# Altium footprint library CAPC0603X33N.PcbLib: 1 footprints
Each footprint in its own frame and in the unit in brackets; x right, y up, seen from the top. Pads: shape width x height; smd on the part's side, far side on the other; paste and mask are expansions set on the pad; w line width, h text height; cw(c..) or ccw(c..) is an arc to the next point about the centre after c.
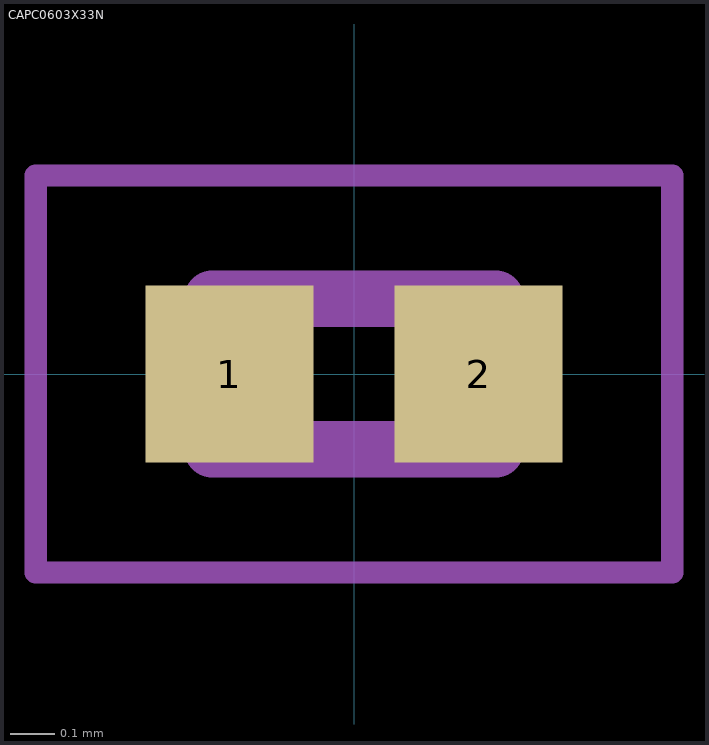
[diagram p0: the footprint, top view; thin cyan lines are the x and y axes]

## CAPC0603X33N [mm]
pads (2):
  rect 0.38x0.4 smd: 1(-0.281,0) 2(0.281,0)
Assembly Top:
  lines w0.127: -0.32,-0.17 0.32,-0.17 0.32,0.17 -0.32,0.17 -0.32,-0.17
Courtyard Top:
  lines w0.05: -0.718,-0.448 0.718,-0.448 0.718,0.448 -0.718,0.448 -0.718,-0.448
3D body "step_temp.STEP": height 0.33, standoff 0, extent -0.3,-0.15 0.3,0.15